# Altium schematic symbol library FETs.SchLib: 14 symbols
Pins are listed as number, name and electrical type; pins without a type are passive.

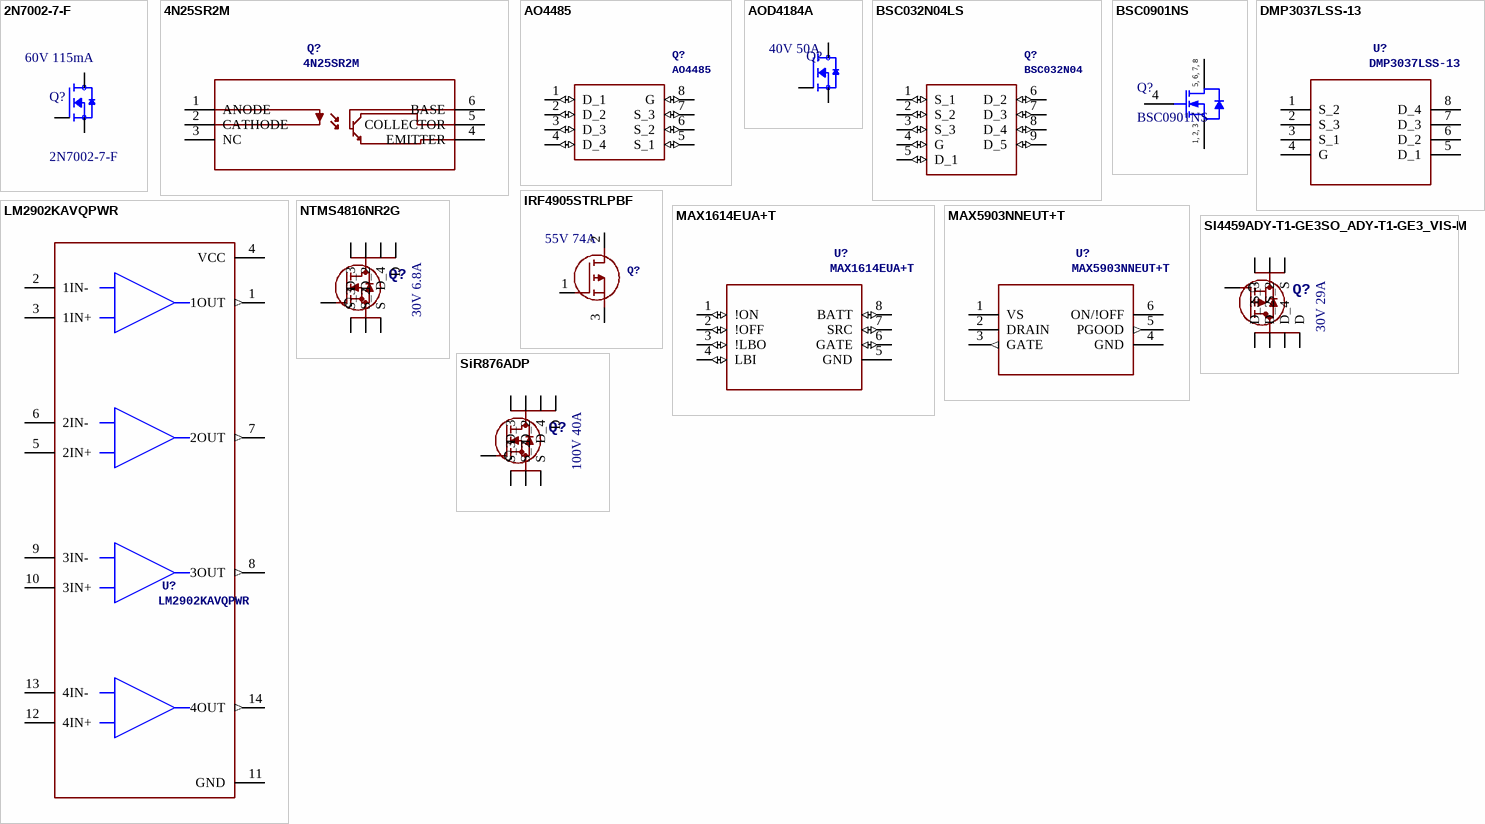
[diagram p0: symbols 2N7002-7-F to SiR876ADP]

## 2N7002-7-F
designator Q?  value 60V 115mA
N-Channel 60V 115mA; MF: Diodes Inc.; Purchase-URL: https://pricing.snapeda.com/search/part/2N7002-7-F/?ref=eda; Package: SOT-23-3 Diodes Inc.; MP: 2N7002-7-F; Price: None; Availability: In Stock; Check_prices: https://www.snapeda.com/parts/2N7002-7-F/Diodes+Inc./view-part/?ref=eda; SnapEDA_Link: https://www.snapeda.com/parts/2N7002-7-F/Diodes+Inc./view-part/?ref=snap; Link: https://www.digikey.ca/en/products/detail/diodes-incorporated/2N7002-7-F/717800; Package: 85049; SupplierPartNumber: 2N7002-FDITR-ND; SuppliersPartNumber: C85049; PartNumber: 2N7002-7-F
footprint MOSFET_SOT-23-3
pins: 1 G, 2 S, 3 D

## 4N25SR2M
designator Q?
OPTO Transistor-base; Mfr_Name: onsemi; DeviceName: SMT-6L_ONS-M; LibraryName: 2022-09-12_19-10-23_Library; Value: *; Link: https://www.digikey.ca/en/products/detail/onsemi/4N25SR2M/400483; Package: FET_SMD-6; PartNumber: 4N25SR2M; SupplierPartNumber: 4N25SR2MTR-ND; SuppliersPartNumber: C44165
footprint OPTO_SMD-6
pins: 1 ANODE, 2 CATHODE, 3 NC, 4 EMITTER, 5 COLLECTOR, 6 BASE

## AO4485
designator Q?
P-Channel 40 V 10A; Manufacturer_Name: Alpha & Omega Semiconductors; Value: 40 V 10A; DeviceSetName: AO4485; Manufacturer_Part_Number: AO4485; Link: https://www.digikey.ca/en/products/detail/alpha-omega-semiconductor-inc/AO4485/3152385; Package: SOIC-8; PartNumber: AO4485; SupplierPartNumber: 785-1551-1-ND; SuppliersPartNumber: C51499
footprint MOSFET_SOIC-8
pins: 1 D_1 (io), 2 D_2 (io), 3 D_3 (io), 4 D_4 (io), 5 S_1 (io), 6 S_2 (io), 7 S_3 (io), 8 G (io)

## AOD4184A
designator Q?  value 40V 50A  (hidden comment: AOD4184A)
N-Channel 40V 50A; MF: Alpha &; Price: None; Availability: Unavailable; MP: AOD4184A; SnapEDA_Link: https://www.snapeda.com/parts/AOD4184A/Alpha%20%26%20Omega%20Semiconductor%20Inc./view-part/1746925/?ref=snap; Link: https://www.digikey.ca/en/products/detail/alpha-omega-semiconductor-inc/AOD4184A/2353886?s=N4IgTCBcDaIIIHkAiAWAjADhXEBdAvkA; Package: TO-252 (DPAK); PartNumber: AOD4184A; SupplierPartNumber: 785-1221-2-ND; SuppliersPartNumber: C99124
footprint MOSFET_TO-263 (D2PAK)
pins: 1 G, 2 D, 3 S

## BSC032N04LS
designator Q?, comment BSC032N04
N-Channel 40 V 21A; Manufacturer_Name: Infineon; DeviceSetName: BSC032N04LS; Manufacturer_Part_Number: BSC032N04LS; Mouser_Part_Number: 726-BSC032N04LS; Mouser_Price-Stock: https://www.mouser.co.uk/ProductDetail/Infineon-Technologies/BSC032N04LS?qs=y2kkmE52mdNjkJZjSJ3vLA%3D%3D; Link: https://www.digikey.ca/en/products/detail/infineon-technologies/BSC032N04LSATMA1/5959899?s=N4IgTCBcDaIEIGUDCAGAzGAcigLCAugL5A; Value: *; Package: 8-PowerTDFN; PartNumber: BSC032N04; SupplierPartNumber: BSC032N04LSATMA1TR-ND; SuppliersPartNumber: C194147
footprint BSC080N03LSG
pins: 1 S_1 (io), 2 S_2 (io), 3 S_3 (io), 4 G (io), 5 D_1 (io), 6 D_2 (io), 7 D_3 (io), 8 D_4 (io), 9 D_5 (io)

## BSC0901NS
designator Q?
N-Channel 30V 28A 1.9mOhm; Manufacturer: Infineon Technologies; Value: 30V 28A; Package: PG-TDSON-8; SupplierNumber: BSC0901NSATMA1TR-ND; SuppliersPartNumber: C152424; PartNumber: BSC0901NS; Link: https://www.digikey.ca/en/products/detail/infineon-technologies/BSC0901NSATMA1/2527816
footprint MOSFET_PG-TDSON-8(6x5)
pins: 1 SOURCE, 2 SOURCE, 3 SOURCE, 4 GATE, 5 DRAIN, 6 DRAIN, 7 DRAIN, 8 DRAIN
text: 5, 6, 7, 8; 1, 2, 3

## DMP3037LSS-13
designator U?
P-Channel 30V 5.8A; PartNumber: DMP3037LSS-13; SupplierPartNumber: DMP3037LSS-13DITR-ND; Link: https://www.digikey.ca/en/products/detail/diodes-incorporated/DMP3037LSS-13/4869019?s=N4IgTCBcDaICIFkAKBmADCg7AGQMq4FoBGFEAXQF8g; SuppliersPartNumber: C150501; Value: 30V 5.8A; Package: SOIC-8_150mil
footprint MOSFET_SOIC-8_150mil
pins: 1 S_2, 2 S_3, 3 S_1, 4 G, 5 D_1, 6 D_2, 7 D_3, 8 D_4

## IRF4905STRLPBF
designator Q?  value 55V 74A  (hidden comment: IRF4905STRLPBF)
P-Channel 55V 74A; Manufacturer_Name: Infineon; GateName_1: G$1; SymbolName_1: IRF4905STRLPBF; LibraryName: IRF4905STRLPBF; DeviceSetName: IRF4905STRLPBF; Manufacturer_Part_Number: IRF4905STRLPBF; Mouser_Part_Number: 942-IRF4905STRLPBF; Mouser_Price-Stock: https://www.mouser.co.uk/ProductDetail/Infineon-IR/IRF4905STRLPBF?qs=9%252BKlkBgLFf1nPwXuyqKOOQ%3D%3D; Arrow_Part_Number: IRF4905STRLPBF; Arrow_Price-Stock: https://www.arrow.com/en/products/irf4905strlpbf/infineon-technologies-ag?region=nac; Height: 4.83mm; Link: *; Package: TO-263 (D2PAK); PartNumber: IRF4905STRLPBF; SupplierPartNumber: 40M7917; SuppliersPartNumber: C2620
footprint MOSFET_TO-263 (D2PAK)
pins: 1 G (io), 2 D (io), 3 S (io)

## LM2902KAVQPWR
designator U?
OpAmps 4Channel; Manufacturer: Texas Instruments; Link: https://www.digikey.ca/en/products/detail/texas-instruments/LM2902KAVQPWR/857694; PartNumber: LM2902KAVQPWR; SupplierNumber: 296-28750-2-ND; SuppliersPartNumber: C496124; Package: TSSOP-14; Value: *
footprint OPAMP_TSSOP-14
pins: 1 1OUT (out), 2 1IN-, 3 1IN+, 4 VCC (power), 5 2IN+, 6 2IN-, 7 2OUT (out), 8 3OUT (out), 9 3IN-, 10 3IN+, 11 GND (power), 12 4IN+, 13 4IN-, 14 4OUT (out)

## MAX1614EUA+T
designator U?
GateDriver uMAX-8; Mfr_Name: Maxim Integrated Products; Value: uMAX-8; Link: https://www.digikey.ca/en/products/detail/analog-devices-inc-maxim-integrated/MAX1614EUA-T/1475620; Package: MSOP-8; PartNumber: MAX1614EUA+T; SupplierNumber: MAX1614EUA+TR-ND; SuppliersPartNumber: C2677104
footprint DRIVER_MSOP-8
pins: 1 !ON (io), 2 !OFF (io), 3 !LBO (io), 4 LBI (io), 5 GND (power), 6 GATE (io), 7 SRC (io), 8 BATT (io)

## MAX5903NNEUT+T
designator U?
Hot Swap Controller MAX5903NNEUT+T; Manufacturer: Analog Devices Inc; DeviceName: 21-0058_U6F+6_MXM-M; DeviceSetName: MAX5903NNEUT+T; Copyright: Copyright (C) 2023 Ultra Librarian. All rights reserved.; PartNumber: MAX5903NNEUT+T; Digi-Key_Part_Number_1: MAX5903NNEUT+T-ND; Digi-Key_Part_Number_2: MAX5903NNEUT+TCT-ND; Digi-Key_Part_Number_3: MAX5903NNEUT+TDKR-ND; Link: https://www.digikey.ca/en/products/detail/analog-devices-inc-maxim-integrated/MAX5903NNEUT-T/1781318?s=N4IgTCBcDaILIEEAaBWAnABgMwDkcFEBVAFQGpiQBdAXyA; SupplierNumber: MAX5903NNEUT+TTR-ND; SuppliersPartNumber: *; Value: *; Package: SOT-23-6
footprint HOTSWAP_SOT-6
pins: 1 VS (power), 2 DRAIN, 3 GATE (out), 4 GND (power), 5 PGOOD (out), 6 ON/!OFF

## NTMS4816NR2G
designator Q?  value 30V 6.8A  (hidden comment: NTMS4816NR2G)
N-channel 30V 6.8A; Mfr_Name: OnSemi; Manufacturer_Part_Number: NTMS4816NR2G; Link: https://www.digikey.ca/en/products/detail/onsemi/NTMS4816NR2G/1793059?s=N4IgTCBcDaIHIBUCyBlALADgIwDY4CUwBxEAXQF8g; Package: SO-8; SupplierPartNumber: NTMS4816NR2G; SuppliersPartNumber: C179627
footprint MOSFET-SO-8
pins: 1 S_3, 2 S_2, 3 S, 4 G, 5 D_3, 6 D_2, 7 D_4, 8 D

## SI4459ADY-T1-GE3SO_ADY-T1-GE3_VIS-M
designator Q?, comment value 30V 29A  (hidden comment: SI4459ADY)
P-Channel 30V 29A 5mOHm; Mfr_Name: Vishay; Manufacturer_Part_Number: SI4459ADY-T1-GE3; Link: https://www.digikey.ca/en/products/detail/vishay-siliconix/SI4459ADY-T1-GE3/1978849?s=N4IgTCBcDaIMoEkAsSCsBOAggEQJoFoAVARnwHEBRAZhAF0BfIA; Package: SOIC-8; PartNumber: SI4459ADY-T1-GE3; SupplierNumber: SI4459ADY-T1-GE3TR-ND; SuppliersPartNumber: C143743
footprint MOSFET_SOIC-8
pins: 1 S_3, 2 S_2, 3 S, 4 G, 5 D_3, 6 D_2, 7 D_4, 8 D

## SiR876ADP
designator Q?  value 100V 40A  (hidden comment: SiR876ADP)
N-channel 100V 40A; Mfr_Name: Vishay; GateName_1: A; SymbolName_1: TRANS_N-MOSFET8_01; DeviceSetName: SIR876ADP-T1-GE3; LibraryName: 2022-08-05_15-37-59_Library; Copyright: Copyright (C) 2022 Ultra Librarian. All rights reserved.; Manufacturer_Part_Number: SIR876ADP-T1-GE3; Link: *; Package: PowerPAK SO-8; PartNumber: SIR876ADP-T1-GE3; SupplierPartNumber: 78-SIR876ADP-T1-GE3; SuppliersPartNumber: C114889
footprint MOSFET_PowerPAK SO-8
pins: 1 S_3, 2 S_2, 3 S, 4 G, 5 D_3, 6 D_2, 7 D_4, 8 D